# Altium footprint library 1206 (3218).PcbLib: 1 footprints
Each footprint in its own frame and in the unit in brackets; x right, y up, seen from the top. Pads: shape width x height; smd on the part's side, far side on the other; paste and mask are expansions set on the pad; w line width, h text height; cw(c..) or ccw(c..) is an arc to the next point about the centre after c.
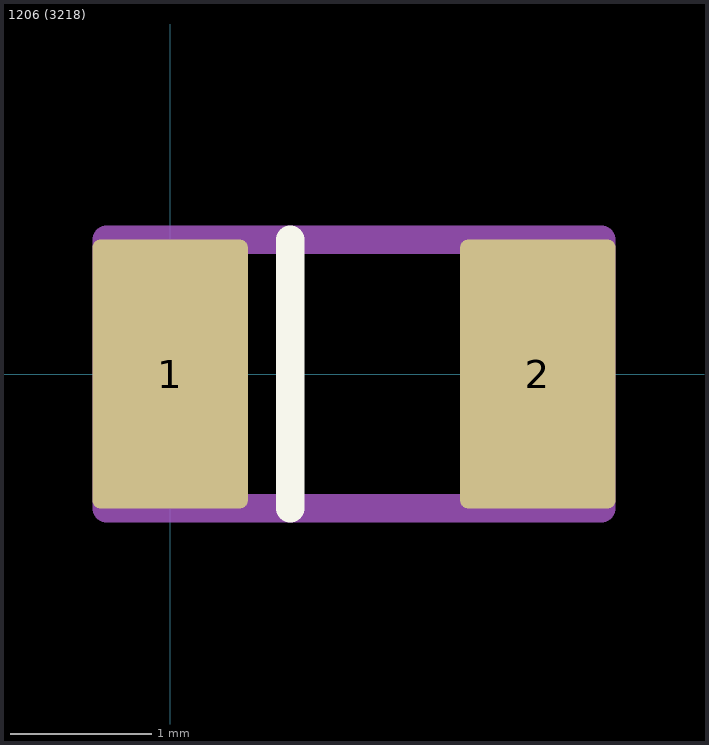
[diagram p0: the footprint, top view; thin cyan lines are the x and y axes]

## 1206 (3218) [mm]
height 1.8
pads (2):
  rrect10% 1.1x1.9 smd: 1(0,0) 2(2.6,0)
Top Overlay:
  lines w0.2: 0.85,-0.95 0.85,0.95
Mechanical 14:
  lines w0.2: -0.45,-0.95 3.05,-0.95 3.05,0.95 -0.45,0.95 -0.45,-0.95
  text "*" at 0.825,0.4 h2
3D body "1206.SLDPRT": height 1.8, standoff -0.1, extent -0.45,-0.95 3.05,0.95